# Altium schematic symbol library TerminalM4.SchLib: 1 symbol
Pins are listed as number, name and electrical type; pins without a type are passive.

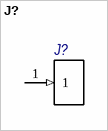
[diagram p0: symbol J?]

## J?
designator J?  (value not drawn)
PCB M4 screw terminal SMD; Link: https://aliexpress.ru/item/32853303520.html?_randl_shipto=RU&gatewayAdapt=glo2rus&sku_id=65320388559
footprint J?
pins: 1 (in) "Информационный вход Х6"